# Altium footprint library WLCSP-12.PcbLib: 1 footprints
Each footprint in its own frame and in the unit in brackets; x right, y up, seen from the top. Pads: shape width x height; smd on the part's side, far side on the other; paste and mask are expansions set on the pad; w line width, h text height; cw(c..) or ccw(c..) is an arc to the next point about the centre after c.
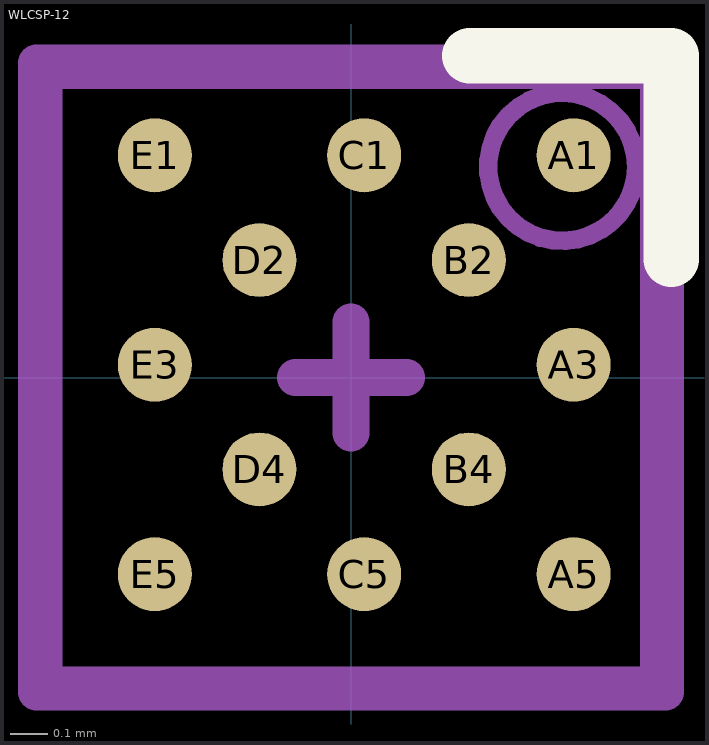
[diagram p0: the footprint, top view; thin cyan lines are the x and y axes]

## WLCSP-12 [mm]
pads (12):
  round 0.2 smd mask+0.05: A1(0.601,0.601) A3(0.601,0.035) A5(0.601,-0.531) B2(0.318,0.318) B4(0.318,-0.248) C1(0.035,0.601) C5(0.035,-0.531) D2(-0.248,0.318) D4(-0.248,-0.248) E1(-0.531,0.601) E3(-0.531,0.035) E5(-0.531,-0.531)
Top Overlay:
  lines w0.15: 0.32,0.87 0.865,0.87 0.865,0.32
Top Assembly:
  circle w0.05: c0.57,0.57 r0.2
  lines w0.1: -0.15,0 0.15,0 ; 0,-0.15 0,0.15 ; -0.85,-0.85 -0.85,0.85 0.85,0.85 0.85,-0.85 -0.85,-0.85
Top Courtyard:
  lines w0.1: -0.83,-0.83 -0.83,0.83 0.83,0.83 0.83,-0.83 -0.83,-0.83
3D body "User Library-bmm150.step": height 0.53, standoff -0.07, extent -0.78,-0.78 0.78,0.78